# EAGLE library part TE_RELAIS (library useful)
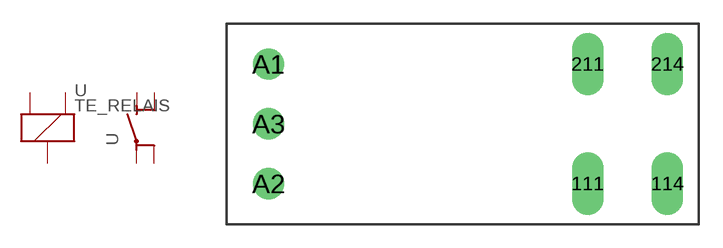
[diagram p5: symbol with the pads of TE_RELAIS; footprint TE_RELAIS]

Designator prefix -; gates G$1=K2 G$2=S

## TE_RELAIS  [TE_RELAIS]
111  G$2:P  pas
114  G$2:S  pas
211  G$2:P  pas
214  G$2:S  pas
A1  G$1:1  pas
A2  G$1:2  pas
A3  G$1:3  pas

## Footprint TE_RELAIS (pad centres in mm)
drill 1.321 long: 111 5.04,-3.78; 114 10.08,-3.78; 211 5.04,3.78; 214 10.08,3.78
drill 1.321: A1 -15.12,3.78; A2 -15.12,-3.78; A3 -15.12,0